# Altium schematic symbol library MP5087GG-Z.SchLib: 1 symbol
Pins are listed as number, name and electrical type; pins without a type are passive.

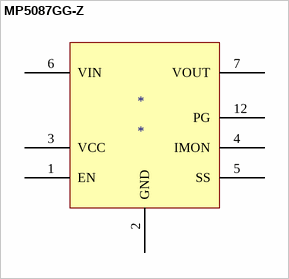
[diagram p0: symbol MP5087GG-Z]

## MP5087GG-Z
designator *
footprint MP5087GG-Z (Power Switch/Driver 1:1 P-Channel 7A)
pins: 1 EN, 2 GND, 3 VCC, 4 IMON, 5 SS, 6 VIN, 7 VOUT, 8 VOUT, 9 VOUT, 10 VOUT, 11 VOUT, 12 PG